# Altium integrated library WireFeeder.IntLib: 42 symbols
Pins are listed as number, name and electrical type; pins without a type are passive.

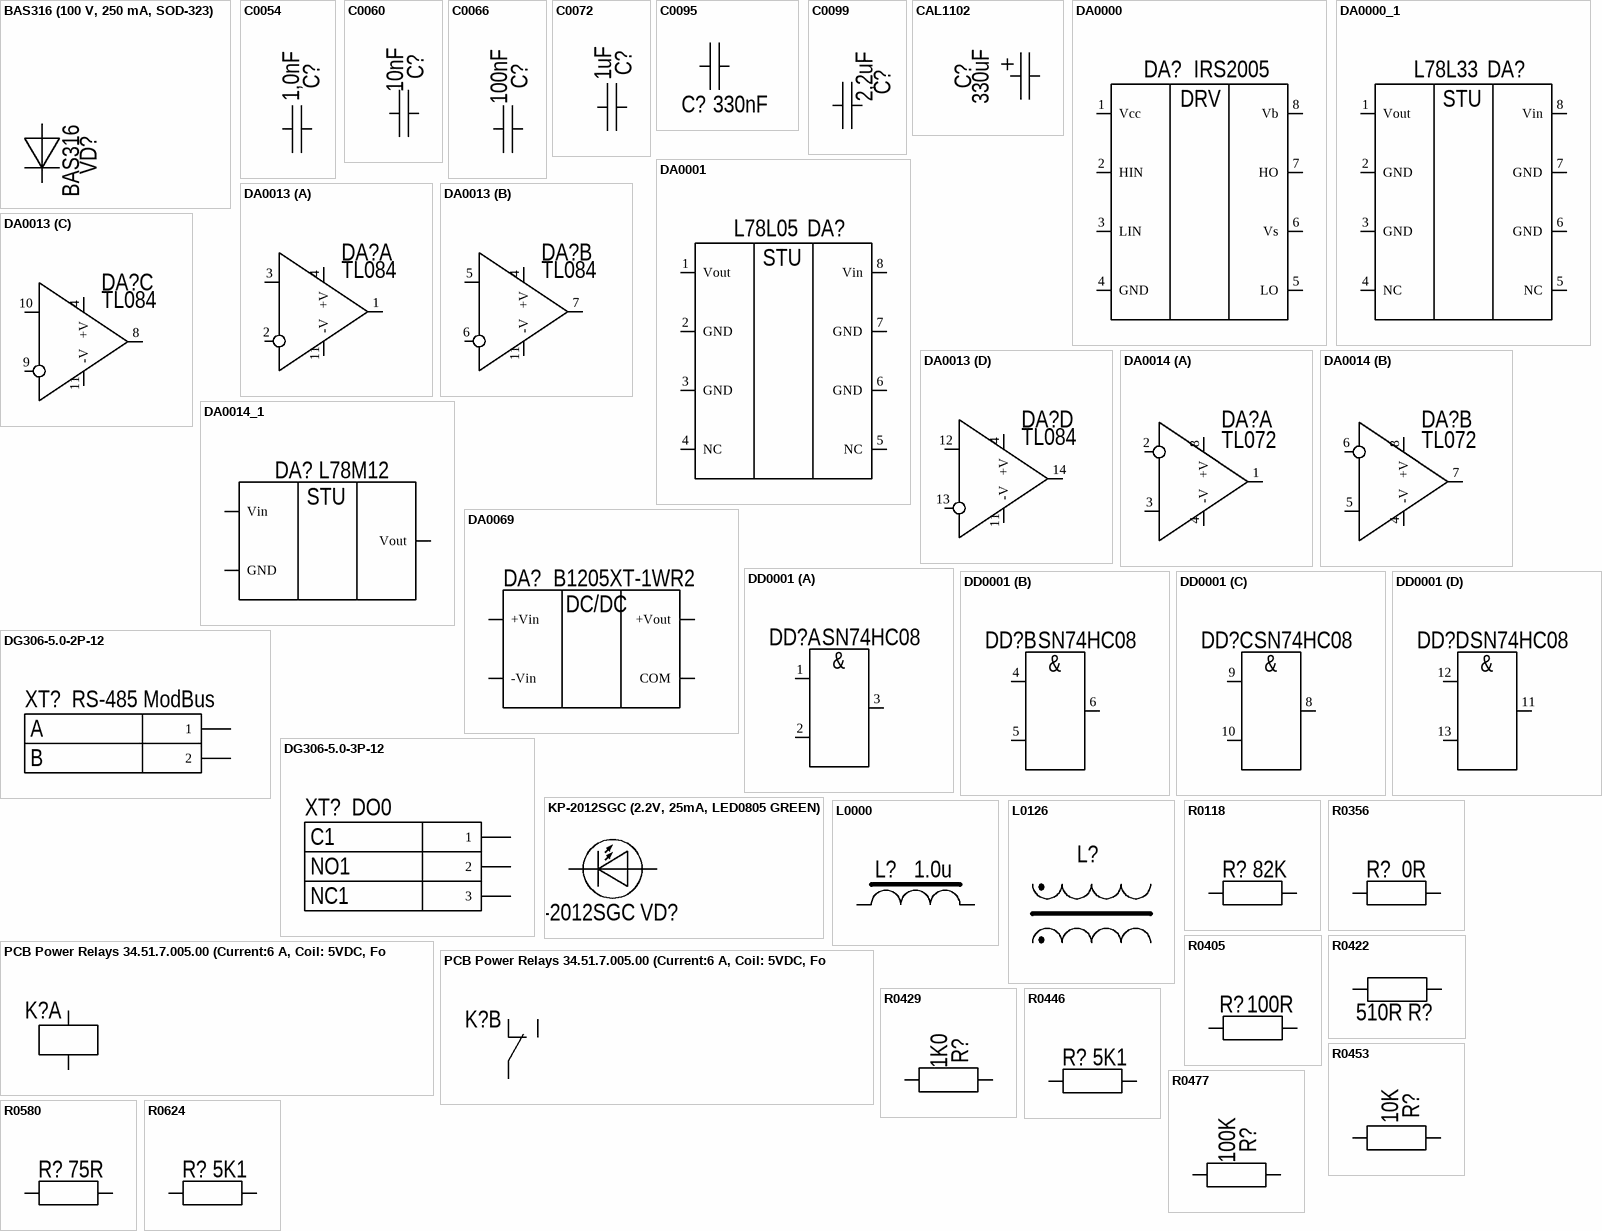
[diagram p0: symbols BAS316 (100 V, 250 mA, SOD-323) to R0624]

## BAS316 (100 V, 250 mA, SOD-323)
designator VD?  Model: BAS316  (hidden comment: BAS316 (100 V, 250 mA, SOD-323))
DIODE BAS316 (100 V, 250 mA, SOD-323, NXP); PartNumber: BAS316,115; ID: VD0001; Voltage: 100 V; Current: 250 mA; Case: SOD-323; Manufacture: NXP; ComponentLink1Description: BAS316 High-speed switching diode; ComponentLink1URL: C:\Users\Ivan\OneDrive\Altium Libraries\Discrete Semiconductors Library\DataSheet\BAS316,115(NXP).pdf
footprint SOD-323
pins: Anode, Cathode

## C0054
designator C?, comment value 1,0nF  (hidden comment: CAP0805 1,0nF±10%, 50 V, X7R)
GENERAL PURPOSE CLASS 2 CERAMIC CAPACITORS CAP0805 1,0nF±10% 50 V X7R; PartNumber: CC0805KRX7R9BB102; Manufacture: Yageo; Tolerance: ±10%; ID: C0054; Voltage: 50 V; Case: 0805 (2.0*1.25mm); Dielectric: X7R; ComponentLink1Description: GENERAL PURPOSE CLASS 2 CERAMIC CAPACITORS; ComponentLink1URL: C:\Altium Libraries\Passives Library\DataSheet\General Purpose & High Capacitance CERAMIC CAPACITOR CLASS II (Yageo).pdf
footprint CAP0805
pins: 1 "CapPin", 2 "CapPin"

## C0060
designator C?, comment value 10nF  (hidden comment: CAP0805 10nF±10%, 50 V, X7R)
GENERAL PURPOSE CLASS 2 CERAMIC CAPACITORS CAP0805 10nF±10% 50 V X7R; PartNumber: CC0805KRX7R9BB103; Manufacture: Yageo; Tolerance: ±10%; ID: C0060; Voltage: 50 V; Case: 0805 (2.0*1.25mm); Dielectric: X7R; ComponentLink1Description: GENERAL PURPOSE CLASS 2 CERAMIC CAPACITORS; ComponentLink1URL: C:\Users\ASGord\OneDrive\Documents\Altium Libraries\Passives Library\DataSheet\General Purpose & High Capacitance CERAMIC CAPACITOR CLASS II (Yageo).pdf
footprint CAP0805
pins: 1 "CapPin", 2 "CapPin"

## C0066
designator C?, comment value 100nF  (hidden comment: CAP0805 100nF±10%, 50 V, X7R)
GENERAL PURPOSE CLASS 2 CERAMIC CAPACITORS CAP0805 100nF±10% 50 V X7R; PartNumber: CC0805KRX7R9BB104; Manufacture: Yageo; Tolerance: ±10%; ID: C0066; Voltage: 50 V; Case: 0805 (2.0*1.25mm); Dielectric: X7R; ComponentLink1Description: GENERAL PURPOSE CLASS 2 CERAMIC CAPACITORS; ComponentLink1URL: #VALUE!
footprint CAP0805
pins: 1 "CapPin", 2 "CapPin"

## C0072
designator C?, comment value 1uF  (hidden comment: CAP0805 1uF±10%, 50 V, X7R)
GENERAL PURPOSE CLASS 2 CERAMIC CAPACITORS CAP0805 1uF±10% 50 V X7R; PartNumber: CC0805KRX7R9BB105; Manufacture: Yageo; Tolerance: ±10%; ID: C0072; Voltage: 50 V; Case: 0805 (2.0*1.25mm); Dielectric: X7R; ComponentLink1Description: GENERAL PURPOSE CLASS 2 CERAMIC CAPACITORS; ComponentLink1URL: C:\Users\ASGord\OneDrive\Documents\Altium Libraries\Passives Library\DataSheet\General Purpose & High Capacitance CERAMIC CAPACITOR CLASS II (Yageo).pdf
footprint CAP0805
pins: 1 "CapPin", 2 "CapPin"

## C0095
designator C?, comment value 330nF  (hidden comment: CAP1206 330nF±10%, 50 V, X7R)
GENERAL PURPOSE CLASS 2 CERAMIC CAPACITORS CAP1206 330nF±10% 50 V X7R; PartNumber: CC1206KKX7R9BB334; Manufacture: Yageo; Tolerance: ±10%; ID: C0095; Voltage: 50 V; Case: 1206 (3.1*1.6mm); Dielectric: X7R; ComponentLink1Description: GENERAL PURPOSE CLASS 2 CERAMIC CAPACITORS; ComponentLink1URL: C:\Users\ASGord\OneDrive\Documents\Altium Libraries\Passives Library\DataSheet\General Purpose & High Capacitance CERAMIC CAPACITOR CLASS II (Yageo).pdf
footprint CAP1206
pins: 1 "CapPin", 2 "CapPin"

## C0099
designator C?, comment value 2,2uF  (hidden comment: CAP1206 2,2uF±10%, 50 V, X7R)
GENERAL PURPOSE CLASS 2 CERAMIC CAPACITORS CAP1206 2,2uF±10% 50 V X7R; PartNumber: CC1206KKX7R9BB225; Manufacture: Yageo; Tolerance: ±10%; ID: C0099; Voltage: 50 V; Case: 1206 (3.1*1.6mm); Dielectric: X7R; ComponentLink1Description: GENERAL PURPOSE CLASS 2 CERAMIC CAPACITORS; ComponentLink1URL: C:\Users\ASGord\OneDrive\Documents\Altium Libraries\Passives Library\DataSheet\General Purpose & High Capacitance CERAMIC CAPACITOR CLASS II (Yageo).pdf
footprint CAP1206
pins: 1 "CapPin", 2 "CapPin"

## CAL1102
designator C?, comment value 330uF  (hidden comment: CapAl10X16X5.0mm 330uF, 50 V)
MINIATURIZED ALUMINUM ELECTROLYTIC CAPACITORS CapAl10X16X5.0 330uF±20% 50 V 105⁰С; PartNumber: EEUHD1H331; Manufacture: Panasonic; Tolerance: ±20%; ID: CAL1102; Voltage: 50 V; Current: 410 mA (100 kHz); Series: HD; Case: 10X16X5.0mm; Temperature: 105⁰С; ComponentLink1Description: MINIATURIZED ALUMINUM ELECTROLYTIC CAPACITORS; ComponentLink1URL: C:\Users\ASGord\OneDrive\Documents\Altium Libraries\Passives Library\DataSheet\Aluminum Electrolytic Capacitors (Panasonic).pdf
footprint CapAl10X16X5.0
footprint CapAl10X16X5.0RA
footprint CapAl10X16X5.0LA
pins: 1 "PosCapPin", 2 "NegCapPin"

## DA0000
designator DA?, comment Model: IRS2005  (hidden comment: IRS2005(SO-8 Narrow))
IRS2005 High and Low Side Driver  ( SO-8 Narrow, IRF); PartNumber: IRS2005SPBF; ID: DA0000; Manufacture: IRF; ComponentLink1Description: IRS2005 High and Low Side Driver; ComponentLink1URL: C:\Altium Libraries\Power IC Library\DataSheet\IRS2005(IRF).pdf
footprint SO-8 Narrow
pins: 1 Vcc, 2 HIN, 3 LIN, 4 GND, 5 LO, 6 Vs, 7 HO, 8 Vb
text: DRV

## DA0000_1
designator DA?, comment Model: L78L33  (hidden comment: L78L33 (SO-8 Narrow))
Positive voltage regulators L78L33 (3.3 V, 100 mA, SO-8 Narrow, STM); PartNumber: L78L33ABD13TR; ID: DA0000; Voltage: 3.3 V; Current: 100 mA; Series: L78L00; Manufacture: STM; ComponentLink1Description: Positive voltage regulators L78L00 Series; ComponentLink1URL: C:\Altium Libraries\Power IC Library\DataSheet\L78L00 series (STM).pdf
footprint SO-8 Narrow
pins: 1 Vout, 2 GND, 3 GND, 4 NC, 5 NC, 6 GND, 7 GND, 8 Vin
text: STU

## DA0001
designator DA?, comment Model: L78L05  (hidden comment: L78L05 (SO-8 Narrow))
Positive voltage regulators L78L05 (5 V, 100 mA, SO-8 Narrow, STM); PartNumber: L78L05ABD13TR; ID: DA0001; Voltage: 5 V; Current: 100 mA; Series: L78L00; Manufacture: STM; ComponentLink1Description: Positive voltage regulators L78L00 Series; ComponentLink1URL: C:\Altium Libraries\Power IC Library\DataSheet\L78L00 series (STM).pdf
footprint SO-8 Narrow
pins: 1 Vout, 2 GND, 3 GND, 4 NC, 5 NC, 6 GND, 7 GND, 8 Vin
text: STU

## DA0013
designator DA?, comment Model: TL084  (hidden comment: TL084 (±18 V))
TL084 Jfet-Input Operational Amplifier ( TL084, ±18 V, SO-14 Narrow ); Manufacture: TI; PartNumber: TL084CD; ID: DA0013; Supply Voltage: ±18 V; Bandwidth: 3MHz; ComponentLink1Description: TL084 Jfet-Input Operational Amplifier; ComponentLink1URL: C:\Altium Libraries\Analog IC Library\DataSheet\TL08x(TI).pdf
footprint SO-14 Narrow
pins on every part: 4 +V, 11 -V
part A pins: 1 OUT1, 2 -IN1, 3 +IN1
part B pins: 5 +IN2, 6 -IN2, 7 OUT2
part C pins: 8 OUT2, 9 -IN2, 10 +IN2
part D pins: 12 +IN2, 13 -IN2, 14 OUT2

## DA0014
designator DA?, comment Model: TL072  (hidden comment: TL072 (±5 V to ±15 V))
TL072 Low-Noise FET-Input Operational Amplifiers ( TL072, ±5 V to ±15 V, SO-8 Narrow ); Manufacture: TI; ID: DA0014; Bandwidth: 5,25MHz; Supply Voltage: ±5 V to ±15 V; PartNumber: TL072; ComponentLink1Description: TL072 Low-Noise FET-Input Operational Amplifiers; ComponentLink1URL: C:\Altium Libraries\Analog IC Library\DataSheet\TL07x(TI).pdf
footprint SO-8 Narrow
pins on every part: 4 -V, 8 +V
part A pins: 1 OUT1, 2 -IN1, 3 +IN1
part B pins: 5 +IN2, 6 -IN2, 7 OUT2

## DA0014_1
designator DA?, comment Model: L78M12  (hidden comment: L78M12 (D-PAK))
Positive voltage regulators L78M12 (12 V, 500 mA, D-PAK, STM); PartNumber: L78M12ABDT-TR; ID: DA0014; Voltage: 12 V; Current: 500 mA; Series: L78M05; Manufacture: STM; ComponentLink1Description: Positive voltage regulators L78M00 Series; ComponentLink1URL: C:\Altium Libraries\Power IC Library\DataSheet\L78M00 series (STM).pdf
footprint D-PAK
pins: GND, Input Vin, Output Vout
text: STU

## DA0069
designator DA?, comment Model: B1205XT-1WR2  (hidden comment: B1205XT-1WR2 (12 V, 5 V))
DC-DC Unregulated Single Output Converter B1205XT-1WR2 (12 V, 5 V, 1W, Mornsun); ID: DA0069; IN Voltage: 12 V; OUT Voltage: 5 V; Series: B_XT-1WR2; Power: 1W; PartNumber: B1205XT-1WR2; Manufacture: Mornsun; ComponentLink1Description: 1W DC-DC Unregulated Single Output Converter; ComponentLink1URL: C:\Altium Libraries\Power IC Library\DataSheet\B_XT-1WR2(MORNSUN).pdf
footprint B_XT-1WR2
pins: +Vin, +Vout, -Vin, COM
text: DC/DC

## DD0001
designator DD?, comment Model: SN74HC08  (hidden comment: SN74HC08(SO-14 Narrow))
SN74HC08 Quadruple 2-Input Positive-AND Gates; PartNumber: SN74HC08D; Manufacture: TI; ID: DD0001; Series: HC; ComponentLink1Description: Logic Guide (TI); ComponentLink1URL: C:\Altium Libraries\Digital IC Library\DataSheet\Logic Guide (TI).pdf; ComponentLink2Description: SN74HC08; ComponentLink2URL: C:\Altium Libraries\Digital IC Library\DataSheet\SN74HC08(TI).pdf
footprint SO-14 Narrow
pins on every part: 7 GND hidden to GND, 14 Vcc hidden to Vcc
part A pins: 1 1A, 2 1B, 3 1Y
part B pins: 4 2A, 5 2B, 6 2Y
part C pins: 8 3Y, 9 3A, 10 3B
part D pins: 11 4Y, 12 4A, 13 4B
part A text: &
part B text: &
part C text: &
part D text: &

## DG306-5.0-2P-12
designator XT?, comment Name Connector: RS-485 ModBus  Pin 2 Name: B  Pin 1 Name: A  (hidden comment: PCB Screw Terminal Blocks 2-Pin, Pitch 5mm)
PCB Screw Terminal Blocks 2-Pole, Pitch 5mm, 250V, 15A per Pin; Manufacture: Degson; PartNumber: DG306-5.0-2P-12; ComponentLink1Description: DG306-5.0 Series Connector (Degson); ComponentLink1URL: http://www.degson.com/en/downpdf/id/948.html
footprint DG306-5.0-2P (Degson PCB Screw Terminal Blocks)
pins: 1 "Pin 1", 2 "Pin 2"

## DG306-5.0-3P-12
designator XT?, comment Pin 3 Name: NC1  Name Connector: DO0  Pin 2 Name: NO1  Pin 1 Name: C1  (hidden comment: PCB Screw Terminal Blocks 3-Pin, Pitch 5mm)
PCB Screw Terminal Blocks 3-Pole, Pitch 5mm, 250V, 15A per Pin; Manufacture: Degson; PartNumber: DG306-5.0-3P-12; ComponentLink1Description: DG306-5.0 Series Connector (Degson); ComponentLink1URL: http://www.degson.com/en/downpdf/id/948.html
footprint DG306-5.0-3P (Degson PCB Screw Terminal Blocks)
pins: 1 "Pin 1", 2 "Pin 2", 3 "Pin 3"

## KP-2012SGC (2.2V, 25mA, LED0805 GREEN)
designator VD?  Model: KP-2012SGC  (hidden comment: KP-2012SGC (2.2V, 25mA, LED0805 GREEN))
LED SMD KP-2012SGC (2.2V, 25mA, LED0805 GREEN); ID: VD003; Color: SUPER BRIGHT GREEN; Luminous Intensity: 15mcd; Voltage: 2.2V; Current: 25mA; Case: 0805; PartNumber: KP-2012SGC; ComponentLink1Description: SMD Green LED 0805; ComponentLink1URL: C:\Altium Libraries\Discrete Semiconductors Library\DataSheet\KP-2012SGC(KGB).pdf
footprint LED0805 GREEN
pins: Anode, Cathode

## L0000
designator L?, comment value 1.0u  (hidden comment: IND0805 0805 (2.0*1.25mm) 1.0u)
SMALL POWER INDUCTOR 1.0u±20% 3.5A; PartNumber: CIGT201208EH1R0MNE; Manufacture: Samsung; Tolerance: ±20%; ID: L0000; Case: 0805 (2.0*1.25mm); Current: 3.5A; ComponentLink1Description: SMALL POWER INDUCTOR; ComponentLink1URL: #VALUE!
footprint IND0805
pins: 1 "CapPin", 2 "CapPin"
3 alternate drawings of the same symbol

## L0126
designator L?, comment Common Mode Chokes 19*17*22,5mm: 180uH, 1.2A  (value not drawn)
PartNumber: BU10-1811R2BL; Manufacture: Coilcraft; ID: L0126; Case: BU10; Value: 180uH; Current: 1.2A; ComponentLink1Description: Common Mode Chokes; ComponentLink1URL: C:\Users\ASGord\OneDrive\Documents\Altium Libraries\Passives Library\DataSheet\BUxx series (Coilcraft).pdf
footprint ON-Ph DR
footprint BU10
pins: InA "First winding input pin", InB "Second winding Input pin", OutA "First winding output pin", OutB "Second winding output pin"

## PCB Power Relays 34.51.7.005.00 (Current:6 A, Coil: 5VDC, Form:SPDT (1C); Size: 28X5X15mm)
designator K?  (value not drawn)
PartNumber: 34.51.7.005.0010; Manufacture: Finder; ID: K0015; Current: 6 A; Series: 34.51; Model: 34.51.7.005.00; Contact form: SPDT (1C); Coil: 5VDC; ComponentLink1Description: Ultra-Slim PCB relays 34 Series (Finder); ComponentLink1URL: C:\Altium Libraries\Electromechanical Library\DataSheet\34 Series (Finder).pdf; ComponentLink2Description: Relays Terminology; ComponentLink2URL: C:\Altium Libraries\Electromechanical Library\DataSheet\Relays Terminology.pdf
footprint 34.51
part A pins: CoilA Coil "First Coil Pin", CoilB Coil "Second Coil Pin"
part B pins: 1A NO "NO Pin of Contact Group 1", 1B NC "NC Pin of Contact Group 1", 1C NO "Common Pin of Contact Group 1"

## R0118
designator R?, comment value 82K  (hidden comment: RES2W (16*5.5mm)  82K±5%)
Carbon Film Fixed Resistors RES2W (16*5.5mm)  82K±5% 500V 2W; PartNumber: KLS6-CF-2W-82KR-J; Manufacture: KLS; Tolerance: ±5%; ID: R0118; Case: RES2W (16*5.5mm); Voltage: 500V; Power: 2W; ComponentLink1Description: Carbon Film Fixed Resistors; ComponentLink1URL: #VALUE!
footprint RES2W (800mil)
footprint RES2W (1000mil)
footprint RES2W (vertical)
pins: 1 "ResPin", 2 "ResPin"

## R0356
designator R?, comment value 0R  (hidden comment: RES0805 0R±5%)
GENERAL PURPOSE CHIP RESISTORS RES0805 0R±5% 150V 0.125W; PartNumber: RC0805JR-070RL; Manufacture: Yageo; Tolerance: ±5%; ID: R0356; Case: 0805 (2.0*1.25mm); Voltage: 150V; Power: 0.125W; ComponentLink1Description: GENERAL PURPOSE CHIP RESISTORS; ComponentLink1URL: C:\Users\ASGord\OneDrive\Documents\Altium Libraries\Passives Library\DataSheet\GENERAL PURPOSE CHIP RESISTORS (Yageo).pdf
footprint RES0805
pins: 1 "ResPin", 2 "ResPin"

## R0405
designator R?, comment value 100R  (hidden comment: RES0805 100R±5%)
GENERAL PURPOSE CHIP RESISTORS RES0805 100R±5% 150V 0.125W; PartNumber: RC0805JR-07100RL; Manufacture: Yageo; Tolerance: ±5%; ID: R0405; Case: 0805 (2.0*1.25mm); Voltage: 150V; Power: 0.125W; ComponentLink1Description: GENERAL PURPOSE CHIP RESISTORS; ComponentLink1URL: C:\Users\ASGord\OneDrive\Documents\Altium Libraries\Passives Library\DataSheet\GENERAL PURPOSE CHIP RESISTORS (Yageo).pdf
footprint RES0805
pins: 1 "ResPin", 2 "ResPin"

## R0422
designator R?, comment value 510R  (hidden comment: RES0805 510R±5%)
GENERAL PURPOSE CHIP RESISTORS RES0805 510R±5% 150V 0.125W; PartNumber: RC0805JR-07510RL; Manufacture: Yageo; Tolerance: ±5%; ID: R0422; Case: 0805 (2.0*1.25mm); Voltage: 150V; Power: 0.125W; ComponentLink1Description: GENERAL PURPOSE CHIP RESISTORS; ComponentLink1URL: C:\Users\ASGord\OneDrive\Documents\Altium Libraries\Passives Library\DataSheet\GENERAL PURPOSE CHIP RESISTORS (Yageo).pdf
footprint RES0805
pins: 1 "ResPin", 2 "ResPin"

## R0429
designator R?, comment value 1K0  (hidden comment: RES0805 1K0±5%)
GENERAL PURPOSE CHIP RESISTORS RES0805 1K0±5% 150V 0.125W; PartNumber: RC0805JR-071K0L; Manufacture: Yageo; Tolerance: ±5%; ID: R0429; Case: 0805 (2.0*1.25mm); Voltage: 150V; Power: 0.125W; ComponentLink1Description: GENERAL PURPOSE CHIP RESISTORS; ComponentLink1URL: C:\Users\ASGord\OneDrive\Documents\Altium Libraries\Passives Library\DataSheet\GENERAL PURPOSE CHIP RESISTORS (Yageo).pdf
footprint RES0805
pins: 1 "ResPin", 2 "ResPin"

## R0446
designator R?, comment value 5K1  (hidden comment: RES0805 5K1±5%)
GENERAL PURPOSE CHIP RESISTORS RES0805 5K1±5% 150V 0.125W; PartNumber: RC0805JR-075K1L; Manufacture: Yageo; Tolerance: ±5%; ID: R0446; Case: 0805 (2.0*1.25mm); Voltage: 150V; Power: 0.125W; ComponentLink1Description: GENERAL PURPOSE CHIP RESISTORS; ComponentLink1URL: C:\Altium Libraries\Passives Library\DataSheet\GENERAL PURPOSE CHIP RESISTORS (Yageo).pdf
footprint RES0805
pins: 1 "ResPin", 2 "ResPin"

## R0453
designator R?, comment value 10K  (hidden comment: RES0805 10K±5%)
GENERAL PURPOSE CHIP RESISTORS RES0805 10K±5% 150V 0.125W; PartNumber: RC0805JR-0710KL; Manufacture: Yageo; Tolerance: ±5%; ID: R0453; Case: 0805 (2.0*1.25mm); Voltage: 150V; Power: 0.125W; ComponentLink1Description: GENERAL PURPOSE CHIP RESISTORS; ComponentLink1URL: C:\Users\ASGord\OneDrive\Documents\Altium Libraries\Passives Library\DataSheet\GENERAL PURPOSE CHIP RESISTORS (Yageo).pdf
footprint RES0805
pins: 1 "ResPin", 2 "ResPin"

## R0477
designator R?, comment value 100K  (hidden comment: RES0805 100K±5%)
GENERAL PURPOSE CHIP RESISTORS RES0805 100K±5% 150V 0.125W; PartNumber: RC0805JR-07100KL; Manufacture: Yageo; Tolerance: ±5%; ID: R0477; Case: 0805 (2.0*1.25mm); Voltage: 150V; Power: 0.125W; ComponentLink1Description: GENERAL PURPOSE CHIP RESISTORS; ComponentLink1URL: #VALUE!
footprint RES0805
pins: 1 "ResPin", 2 "ResPin"

## R0580
designator R?, comment value 75R  (hidden comment: RES1206 75R±5%)
GENERAL PURPOSE CHIP RESISTORS RES1206 75R±5% 200V 0.25W; PartNumber: RC1206JR-0775RL; Manufacture: Yageo; Tolerance: ±5%; ID: R0580; Case: 1206 (3.1*1.6mm); Voltage: 200V; Power: 0.25W; ComponentLink1Description: GENERAL PURPOSE CHIP RESISTORS; ComponentLink1URL: C:\Users\ASGord\OneDrive\Documents\Altium Libraries\Passives Library\DataSheet\GENERAL PURPOSE CHIP RESISTORS (Yageo).pdf
footprint RES1206
pins: 1 "ResPin", 2 "ResPin"

## R0624
designator R?, comment value 5K1  (hidden comment: RES1206 5K1±5%)
GENERAL PURPOSE CHIP RESISTORS RES1206 5K1±5% 200V 0.25W; PartNumber: RC1206JR-075K1L; Manufacture: Yageo; Tolerance: ±5%; ID: R0624; Case: 1206 (3.1*1.6mm); Voltage: 200V; Power: 0.25W; ComponentLink1Description: GENERAL PURPOSE CHIP RESISTORS; ComponentLink1URL: C:\Users\ASGord\OneDrive\Documents\Altium Libraries\Passives Library\DataSheet\GENERAL PURPOSE CHIP RESISTORS (Yageo).pdf
footprint RES1206
pins: 1 "ResPin", 2 "ResPin"

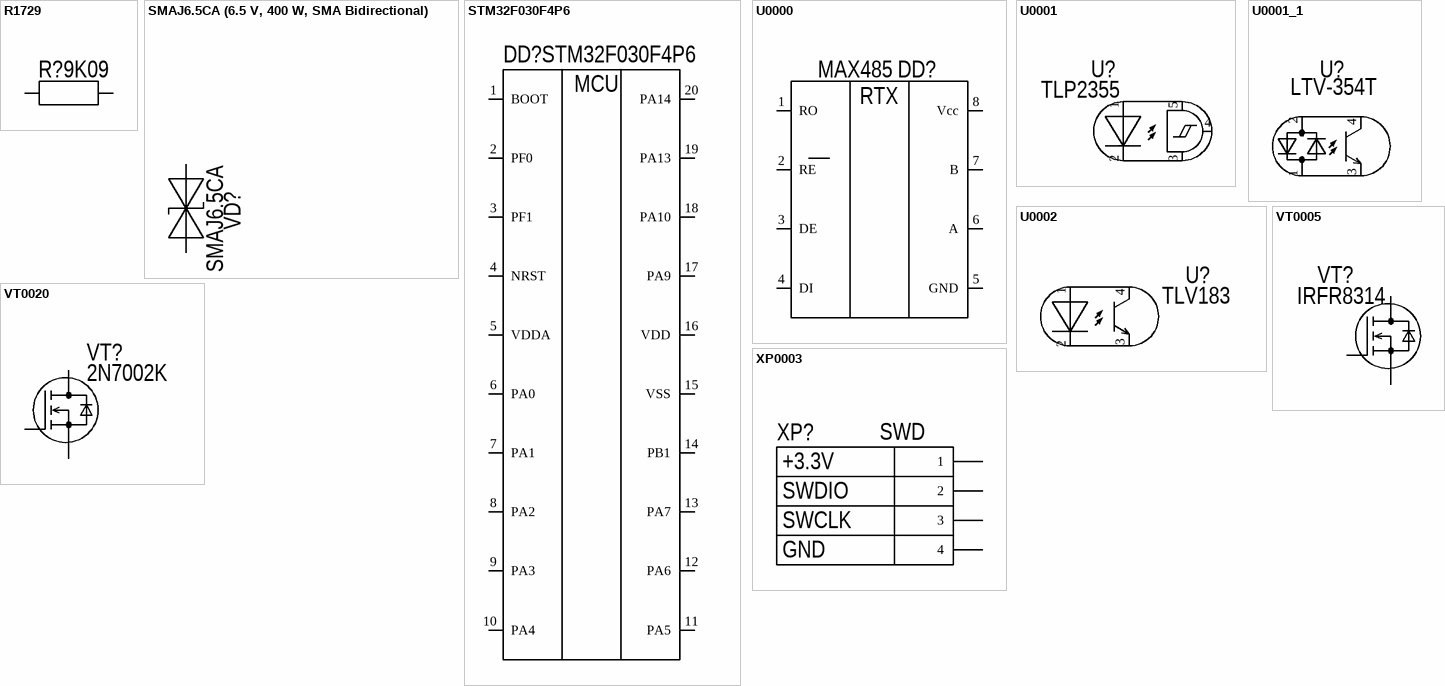
[diagram p1: symbols R1729 to XP0003]

## R1729
designator R?, comment value 9K09  (hidden comment: RES0805 9K09±1%)
GENERAL PURPOSE CHIP RESISTORS RES0805 9K09±1% 150V 0.125W; PartNumber: RC0805FR-079K09L; Manufacture: Yageo; Tolerance: ±1%; ID: R1729; Case: 0805 (2.0*1.25mm); Voltage: 150V; Power: 0.125W; ComponentLink1Description: GENERAL PURPOSE CHIP RESISTORS; ComponentLink1URL: #VALUE!
footprint RES0805
pins: 1 "ResPin", 2 "ResPin"

## SMAJ6.5CA (6.5 V, 400 W, SMA Bidirectional)
designator VD?  Model: SMAJ6.5CA  (hidden comment: SMAJ6.5CA (6.5 V, 400 W, SMA Bidirectional))
TVS DIODE SMAJ6.5CA (6.5 V, 400 W, SMA Bidirectional, STM); PartNumber: SMAJ6.5CA-TR; ID: VD0195; Voltage: 6.5 V; Power: 400 W; Case: SMA; Manufacture: STM; ComponentLink1Description: SMAJ6.5CA Transient Voltage Suppressors; ComponentLink1URL: C:\Users\Ivan\OneDrive\Altium Libraries\Discrete Semiconductors Library\DataSheet\SMAJ Series (STM).pdf
footprint SMA Bidirectional
pins: 1, 2

## STM32F030F4P6
designator DD?
Manufacturer: STMicroelectronics; Flash memory size: 16Kb; RAM memory size: 4Kb; ComponentLink1Description: STM32F030; ComponentLink1URL: https://www.st.com/resource/en/datasheet/stm32f030f4.pdf; Case: TSSOP-20; PartNumber: STM32F030F4P6; Temperature range: - 40 to 85 °C; Name: STM32F030F4P6
footprint TSSOP-20
pins: 1 BOOT, 2 PF0, 3 PF1, 4 NRST, 5 VDDA, 6 PA0, 7 PA1, 8 PA2, 9 PA3, 10 PA4, 11 PA5, 12 PA6, 13 PA7, 14 PB1, 15 VSS, 16 VDD, 17 PA9, 18 PA10, 19 PA13, 20 PA14
text: MCU

## U0000
designator DD?, comment Model: MAX485  (hidden comment: MAX485 (2.5 Mbit, 4.75 V ... 5.25 V ))
Low-power transceivers for RS-485 and RS-422 (2.5 Mbit, 4.75 V ... 5.25 V, SO-8 Narrow); PartNumber: MAX483ESA; Manufacture: Maxim; ID: U0000; Qty Channels: 1; Speed: 2.5 Mbit; Supply Voltage: 4.75 V ... 5.25 V; ComponentLink1Description: Low-power transceivers for RS-485 and RS-422; ComponentLink1URL: C:\Altium Libraries\Interface IC Library\DataSheet\MAX485(Maxim).pdf
footprint SO-8 Narrow
pins: 1 RO "Receiver Output", 2 RE "Receiver Output Enable", 3 DE "Driver Output Enable", 4 DI "Driver Input", 5 GND "Ground", 6 A "Noninverting Receiver Input and Noninverting Driver Output", 7 B "Inverting Receiver Input and Inverting Driver Output", 8 Vcc "Positive Supply"
text: RTX

## U0001
designator U?, comment Model: TLP2355  (hidden comment: TLP2355 (5 Mbit, 2.7 V ... 5.5 V ))
TLP2355 Buffer logic type, 5 MBd Digital Optocoupler (5 Mbit, 2.7 V ... 5.5 V, SO-6 5pin); Manufacture: Toshiba; ID: U0001; Speed: 5 Mbit; Qty Channels: 1; Supply Voltage: 2.7 V ... 5.5 V; PartNumber: TLP2355; ComponentLink1Description: TLP2355 Buffer logic type, 5 MBd Digital Optocoupler; ComponentLink1URL: C:\Altium Libraries\Interface IC Library\DataSheet\TLP2355(Toshiba).pdf
footprint SO-6 5pin
pins: 1 Anode "Anode LED pin", 2 Cathode "Cathode LED pin", 3 GND "GND pin", 4 Vout "Vout pin", 5 Vcc "Vcc pin"

## U0001_1
designator U?, comment Model: LTV-354T  (hidden comment: LTV-354T (35 V, 50 mA))
LTV-354T Phototransistor Optocoupler (35 V, 50 mA, SOP-4); Manufacture: LiteOn; ID: U0001; Qty Channels: 1; Voltage: 35 V; Current: 50 mA; PartNumber: LTV-354T; ComponentLink1Description: LTV-354T Phototransistor Optocoupler; ComponentLink1URL: C:\Altium Libraries\Interface IC Library\DataSheet\LTV-354T(LiteOn).pdf
footprint SOP-4
pins: 1 InA "LED pin", 2 InB "LED pin", 3 Emitter "Emitter Phototransistor pin", 4 Collector "Vout pin"

## U0002
designator U?, comment Model: TLV183  (hidden comment: LTV183 (80 V, 50 mA))
TLP183 Phototransistor Optocoupler (80 V, 50 mA, SOP-4); PartNumber: TLP183(BL-TPL,E; Manufacture: Toshiba; ID: U0002; Qty Channels: 1; Voltage: 80 V; Current: 50 mA; ComponentLink1Description: TLP183 Phototransistor Optocoupler; ComponentLink1URL: C:\Altium Libraries\Interface IC Library\DataSheet\TLP183(Toshiba).pdf
footprint SOP-4
pins: 1 Anode "Anode LED pin", 2 Cathode "Cathode LED pin", 3 Emitter "Emitter Phototransistor Pin", 4 Collector "Collector Phototransistor Pin"

## VT0005
designator VT?, comment Model: IRFR8314  (hidden comment: IRFR8314 (30 V, 179 A, 2.2 mOh, D-PAK MOSFET))
MOSFET IRFR8314 (30 V, 179 A, 2.2 mOh, D-PAK MOSFET, IRF); PartNumber: IRFR8314TRPbF; ID: VT0005; Voltage: 30 V; Current: 179 A; On-Resistance: 2.2 mOh; Case: D-PAK; Manufacture: IRF; ComponentLink1Description: IRFR8314 HEXFET Power MOSFET; ComponentLink1URL: C:\Altium Libraries\Discrete Semiconductors Library\DataSheet\IRFR8314PBF(INF).pdf
footprint D-PAK MOSFET
pins: Drain, Gate, Source

## VT0020
designator VT?, comment Model: 2N7002K  (hidden comment: 2N7002K (60 V, 0.34 A, 1000 mOh, SOT23-3 MOSFET (GSD)))
MOSFET 2N7002K (60 V, 0.34 A, 1000 mOh, SOT23-3 MOSFET (GSD), Hottech); ID: VT0020; Voltage: 60 V; Current: 0.34 A; On-Resistance: 1000 mOh; Case: SOT-23; PartNumber: 2N7002K; Manufacture: Hottech; ComponentLink1Description: 2N7002K  N-Channel MOSFET; ComponentLink1URL: C:\Altium Libraries\Discrete Semiconductors Library\DataSheet\2N7002K(Hottech).pdf
footprint SOT23-3 MOSFET (GSD)
pins: Drain, Gate, Source

## XP0003
designator XP?  Pin 4 Name: GND  Pin 3 Name: SWCLK  Pin 2 Name: SWDIO  Pin 1 Name: +3.3V  Name Connector: SWD  (hidden comment: XP0003)
Vertical Single Connector PLS-04 3A 250V; PartNumber: DS1021-1x4SF11-3A; Manufacture: CONNFLY; ID: XP0003; Series: PLS; Number of Pins: 4; Current Rating: 3A; Voltage Rating: 250V; ComponentLink1Description: Vertical Single Connector; ComponentLink1URL: C:\Altium Libraries\Connectors Libraries_KI\DataSheet\DS1021.pdf
footprint PLS-04
pins: 1, 2, 3, 4